# EAGLE library part INA333_DGK (library SquantorIC)
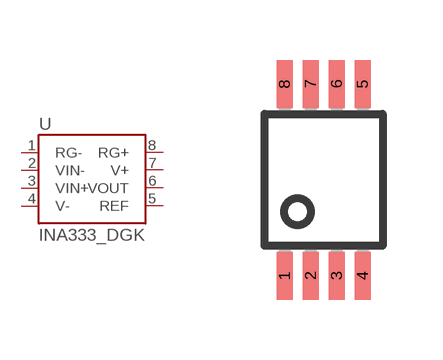
[diagram p1: symbol with the pads of DGK_S-PDSO-G8; footprint DGK_S-PDSO-G8]

Designator prefix -

## INA333_DGK  [DGK_S-PDSO-G8]
1  RG-
2  VIN-  in
3  VIN+  in
4  V-  pwr
5  REF  in
6  VOUT  out
7  V+  pwr
8  RG+

## Footprint DGK_S-PDSO-G8 (pad centres in mm)
smd 0.4 x 1.2: 1 -0.975,-2.4; 2 -0.325,-2.4; 3 0.325,-2.4; 4 0.975,-2.4; 5 0.975,2.4; 6 0.325,2.4; 7 -0.325,2.4; 8 -0.975,2.4